# EAGLE library part *85 (library digital)
74xx85: 4-bit magnitude comparator (Equality detector)
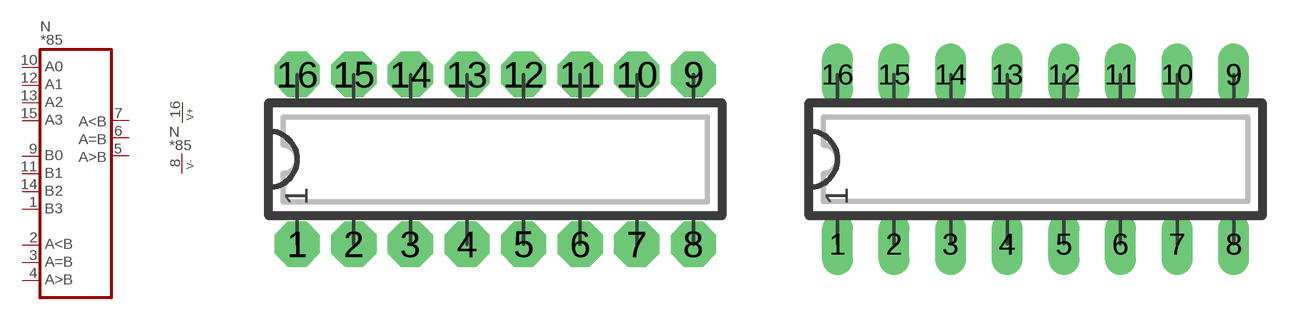
[diagram p21: symbol with the pads of DIP16N; footprints DIP16N, DIP16L]

Designator prefix N; gates  =COMP4 P=V+-

## 7485N, 74AC85N, 74ACT85N, 74HC85N, 74LS85N  [DIP16N]
1   :B3  in
2   :A<BIN  in
3   :A=BIN  in
4   :A>BIN  in
5   :A>BOUT  out
6   :A=BOUT  out
7   :A<BOUT  out
8  P:V-  pwr
9   :B0  in
10   :A0  in
11   :B1  in
12   :A1  in
13   :A2  in
14   :B2  in
15   :A3  in
16  P:V+  pwr

## 7485, 74AC85, 74ACT85, 74HC85, 74LS85  [DIP16L]
Pads as for DIP16N

## 7485L, 74AC85L, 74ACT85L, 74HC85L, 74LS85L  [DIP16L]
Pads as for DIP16N

## 7485R, 74AC85R, 74ACT85R, 74HC85R, 74LS85R  [DIP16R]
Pads as for DIP16N

## 74AC85S, 74ACT85S, 74HC85S, 74HCT85S  [SO16]
Pads as for DIP16N

## Footprint DIP16N (pad centres in mm)
DIP-16 Standard IC package, 16 pins
drill 0.813 pad 2.032 octagon: 1 0,0; 2 2.54,0; 3 5.08,0; 4 7.62,0; 5 10.16,0; 6 12.7,0; 7 15.24,0; 8 17.78,0; 9 17.78,7.62; 10 15.24,7.62; 11 12.7,7.62; 12 10.16,7.62; 13 7.62,7.62; 14 5.08,7.62; 15 2.54,7.62; 16 0,7.62

## Footprint DIP16L (pad centres in mm)
DIP-16, long pads Standard IC package, 16 pins
drill 0.813 pad 1.397 long: 1 0,0; 2 2.54,0; 3 5.08,0; 4 7.62,0; 5 10.16,0; 6 12.7,0; 7 15.24,0; 8 17.78,0; 9 17.78,7.62; 10 15.24,7.62; 11 12.7,7.62; 12 10.16,7.62; 13 7.62,7.62; 14 5.08,7.62; 15 2.54,7.62; 16 0,7.62

## Footprint DIP16R (pad centres in mm)
DIP-16, reduced pads Standard IC package, 16 pins
drill 0.813 pad 1.397 square: 1 0,0; 2 2.54,0; 3 5.08,0; 4 7.62,0; 5 10.16,0; 6 12.7,0; 7 15.24,0; 8 17.78,0; 9 17.78,7.62; 10 15.24,7.62; 11 12.7,7.62; 12 10.16,7.62; 13 7.62,7.62; 14 5.08,7.62; 15 2.54,7.62; 16 0,7.62

## Footprint SO16 (pad centres in mm)
SO-16, SMD SOIC IC package, 16 pins
smd 0.635 x 1.778: 1 -4.445,-2.857; 2 -3.175,-2.857; 3 -1.905,-2.857; 4 -0.635,-2.857; 5 0.635,-2.857; 6 1.905,-2.857; 7 3.175,-2.857; 8 4.445,-2.857; 9 4.445,2.857; 10 3.175,2.857; 11 1.905,2.857; 12 0.635,2.857; 13 -0.635,2.857; 14 -1.905,2.857; 15 -3.175,2.857; 16 -4.445,2.857